# EAGLE library part 610X10243021 (library Board-to-Board (rev18a))
WR-PHD 2.54mm SMT Dual Socket Header Bottom Entry, 10 Pins=>Code : Con_BTB_SHD_2.54_2_610x10243021(packageing:x = 0: Tube x = 3: Tape & Reel with Cap) <http://katalog.we-online.de/media/images/eican/Con_BTB_SHD_2.54_2_6100xx243021_pf2.jpg> Details see: 6100xx243021 http://katalog.we-online.de/en/em/PHD_2_54_SMT_DUAL_SOCKET_HEADER_BOTTOM_ENTRY_6100XX243021 6103xx243021 http://katalog.we-online.de/en/em/PHD_2_54_SMT_DUAL_SOCKET_HEADER_BOTTOM_ENTRY_6103XX243021 2014 (C) Würth Elektronik
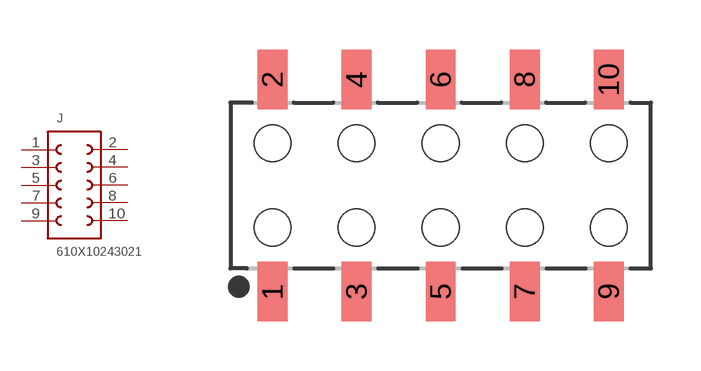
[diagram p178: symbol with the pads of 610X10243021; footprint 610X10243021]

Designator prefix J

## 610X10243021  [610X10243021]
1  1  pas
2  10  pas
3  2  pas
4  9  pas
5  3  pas
6  8  pas
7  4  pas
8  7  pas
9  5  pas
10  6  pas

## Footprint 610X10243021 (pad centres in mm)
WR-PHD 2.54mm SMT Dual Socket Header Bottom Entry, 10 Pins
smd 0.9 x 1.8: 1 -5.08,-3.2; 2 -5.08,3.2; 3 -2.54,-3.2; 4 -2.54,3.2; 5 0,-3.2; 6 0,3.2; 7 2.54,-3.2; 8 2.54,3.2; 9 5.08,-3.2; 10 5.08,3.2
hole 1.1 at -5.08,1.27
hole 1.1 at -2.54,1.27
hole 1.1 at -2.54,-1.27
hole 1.1 at -5.08,-1.27
hole 1.1 at 0,1.27
hole 1.1 at 0,-1.27
hole 1.1 at 2.54,1.27
hole 1.1 at 2.54,-1.27
hole 1.1 at 5.08,-1.27
hole 1.1 at 5.08,1.27